# EAGLE library part MCP44 (library (manufact)-Microchip-MCP44-farnell)
7/8-Bit Quad I2C Digital POT,TSSOP-14
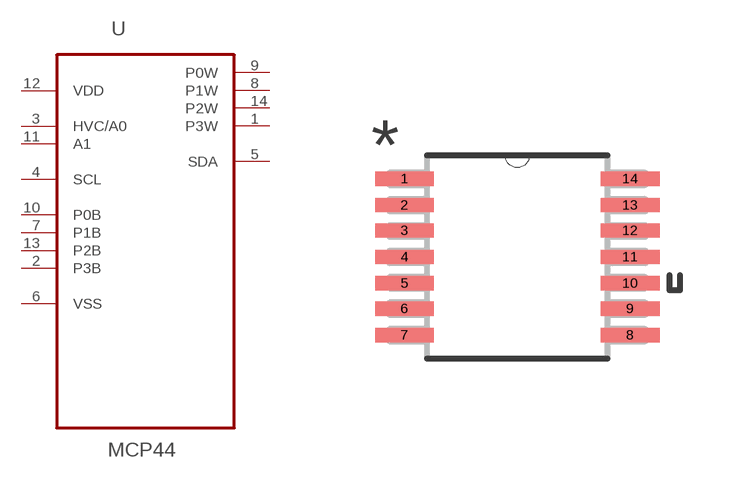
[diagram p0: symbol with the pads of SOP65P640X120-14N; footprint SOP65P640X120-14N]

Designator prefix U

## MCP4442-103E/ST (MPN: MCP4442-103E/ST; OC_FARNELL: 1855446; OC_NEWARK: 91R2864; PACKAGE: TSSOP-14; SUPPLIER: MICROCHIP), MCP4442-104E/ST (MPN: MCP4442-104E/ST; OC_FARNELL: 1855447; OC_NEWARK: 91R2865; PACKAGE: TSSOP-14; SUPPLIER: MICROCHIP), MCP4442-503E/ST (MPN: MCP4442-503E/ST; OC_FARNELL: 1855448; OC_NEWARK: 91R2866; PACKAGE: TSSOP-14; SUPPLIER: MICROCHIP), MCP4462-103E/ST (MPN: MCP4462-103E/ST; OC_FARNELL: 1855455; OC_NEWARK: 91R2884; PACKAGE: TSSOP-14; SUPPLIER: MICROCHIP), MCP4462-104E/ST (MPN: MCP4462-104E/ST; OC_FARNELL: 1855456; OC_NEWARK: 91R2885; PACKAGE: TSSOP-14; SUPPLIER: MICROCHIP), MCP4462-503E/ST (MPN: MCP4462-503E/ST; OC_FARNELL: 1855457; OC_NEWARK: 91R2886; PACKAGE: TSSOP-14; SUPPLIER: MICROCHIP)  [SOP65P640X120-14N]
1  P3W  pas
2  P3B  pas
3  HVC/A0  in
4  SCL  in
5  SDA
6  VSS  pwr
7  P1B  pas
8  P1W  pas
9  P0W  pas
10  P0B  pas
11  A1  in
12  VDD  pwr
13  P2B  pas
14  P2W  pas

## Footprint SOP65P640X120-14N (pad centres in mm)
smd 1.473 x 0.356: 1 -2.819,1.956; 2 -2.819,1.295; 3 -2.819,0.66; 4 -2.819,0; 5 -2.819,-0.66; 6 -2.819,-1.295; 7 -2.819,-1.956; 8 2.819,-1.956; 9 2.819,-1.295; 10 2.819,-0.66; 11 2.819,0; 12 2.819,0.66; 13 2.819,1.295; 14 2.819,1.956